# EAGLE library part LNK362-364 (library power_integrations)
LinkSwitch-XT incorporates a 700 V power MOSFET, oscillator, simple ON/OFF control scheme, a high-voltage switched current source, frequency jittering, cycle-by-cycle current limit and thermal shutdown circuitry onto a monolithic IC. The startupand operating power are derived directly from the DRAIN pin, eliminating the need for a bias winding and associated circuitry.
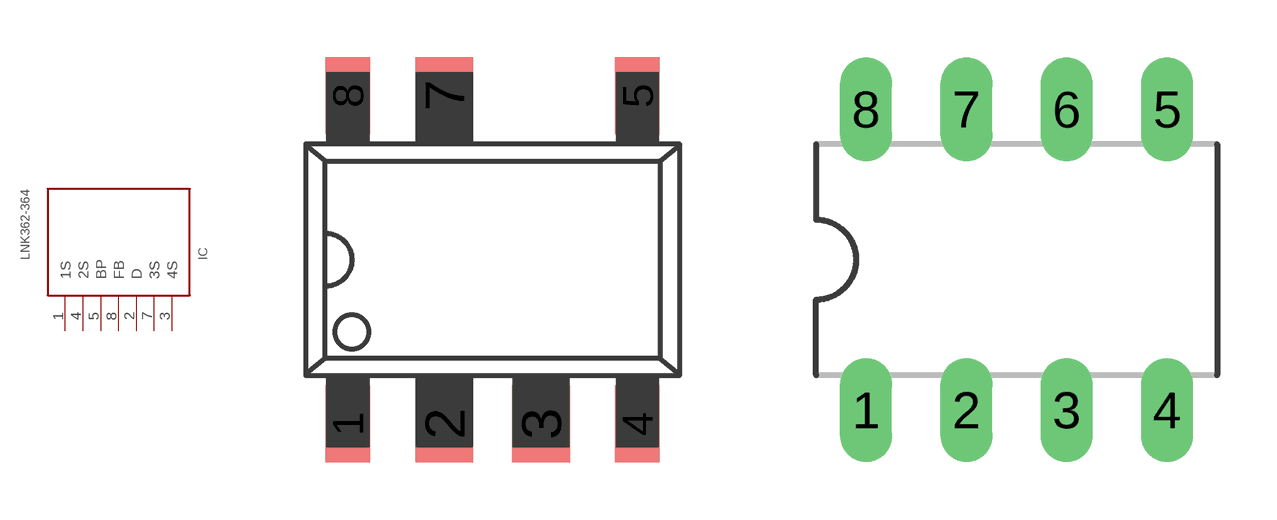
[diagram p7: symbol with the pads of DIP8B_SMD(G_PACKAGE); footprints DIP8B_SMD(G_PACKAGE), DIL08]

Designator prefix IC

## LNK362-364  [DIP8B_SMD(G_PACKAGE)]
1  1S
2  D
3  4S
4  2S
5  BP
7  3S
8  FB

## LNK362-364DIL8  [DIL08]
1  1S
2  2S
3  BP
4  FB
5  D
7  3S
8  4S

## LNK362-364SO8-C(D_PACKAGE)  [SO8-C(D_PACKAGE)]
1  BP
2  FB
4  D
5  1S
6  2S
7  3S
8  4S

## Footprint DIP8B_SMD(G_PACKAGE) (pad centres in mm)
smd 1.168 x 2.032: 1 -3.81,-4.32; 4 3.81,-4.32; 5 3.81,4.32; 8 -3.81,4.32
smd 1.524 x 2.032: 2 -1.27,-4.32; 3 1.27,-4.32; 7 -1.27,4.32

## Footprint DIL08 (pad centres in mm)
Dual In Line Package
drill 0.813 long: 1 -3.81,-3.81; 2 -1.27,-3.81; 3 1.27,-3.81; 4 3.81,-3.81; 5 3.81,3.81; 6 1.27,3.81; 7 -1.27,3.81; 8 -3.81,3.81

## Footprint SO8-C(D_PACKAGE) (pad centres in mm)
SMALL OUTLINE INTEGRATED CIRCUIT body 3.9 mm/JEDEC MS-012AA
smd 0.6 x 2.2: 1 -1.905,-2.6; 2 -0.635,-2.6; 4 1.905,-2.6; 5 1.905,2.6; 6 0.635,2.6; 7 -0.635,2.6; 8 -1.905,2.6